# EAGLE library part D1MINI (library Termostat)
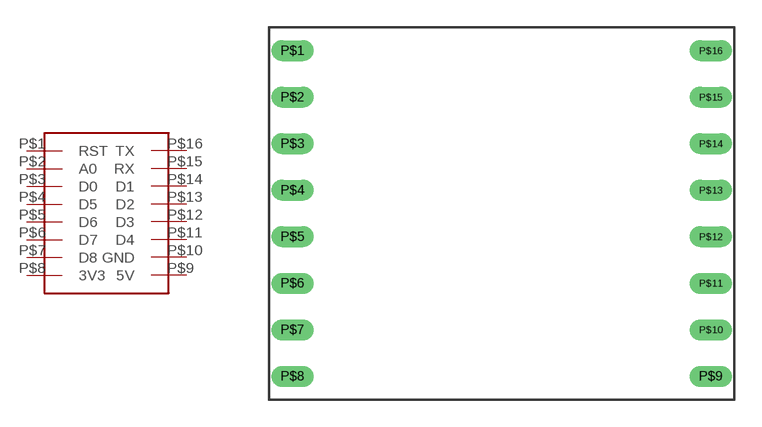
[diagram p0: symbol with the pads of 16PINSWIDE; footprint 16PINSWIDE]

Designator prefix -

## D1MINI  [16PINSWIDE]
P$1  RST
P$2  A0
P$3  D0
P$4  D5
P$5  D6
P$6  D7
P$7  D8
P$8  3V3
P$9  5V
P$10  GND
P$11  D4
P$12  D3
P$13  D2
P$14  D1
P$15  RX
P$16  TX

## Footprint 16PINSWIDE (pad centres in mm)
drill 0.65 long: P$1 -11.43,8.89; P$2 -11.43,6.35; P$3 -11.43,3.81; P$4 -11.43,1.27; P$5 -11.43,-1.27; P$6 -11.43,-3.81; P$7 -11.43,-6.35; P$8 -11.43,-8.89; P$9 11.43,-8.89; P$10 11.43,-6.35; P$11 11.43,-3.81; P$12 11.43,-1.27; P$13 11.43,1.27; P$14 11.43,3.81; P$15 11.43,6.35; P$16 11.43,8.89